# Altium integrated library Header 10.IntLib: 1 symbol
Pins are listed as number, name and electrical type; pins without a type are passive.

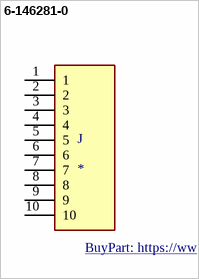
[diagram p0: symbol 6-146281-0]

## 6-146281-0
designator J
10 MODII HDR SRST B/A .100CL; MP: 6-146281-0; Centerline_Pitch: 2.54 mm[.1 in]; MF: TE Connectivity; Product_Type: Connector; Number_of_Positions: 10; Price: None; Mouser-Purchase-URL: https://snapeda.com/shop?store=Mouser&id=1072867; SnapEDA_Link: https://www.snapeda.com/parts/6-146281-0/TE%20Connectivity/view-part/1072867/?ref=snap; EU_RoHS_Compliance: Compliant; Package: None; DigiKey-Purchase-URL: https://snapeda.com/shop?store=DigiKey&id=1072867; Availability: Warning; Value: *; BuyPart: https://www.snapeda.com/parts/6-146281-0/TE%20Connectivity/view-part/1072867/?ref=eda
footprint TE_6-146281-0
pins: 1, 2, 3, 4, 5, 6, 7, 8, 9, 10